# Altium schematic symbol library PBL - Transistors.SCHLIB: 19 symbols
Pins are listed as number, name and electrical type; pins without a type are passive.

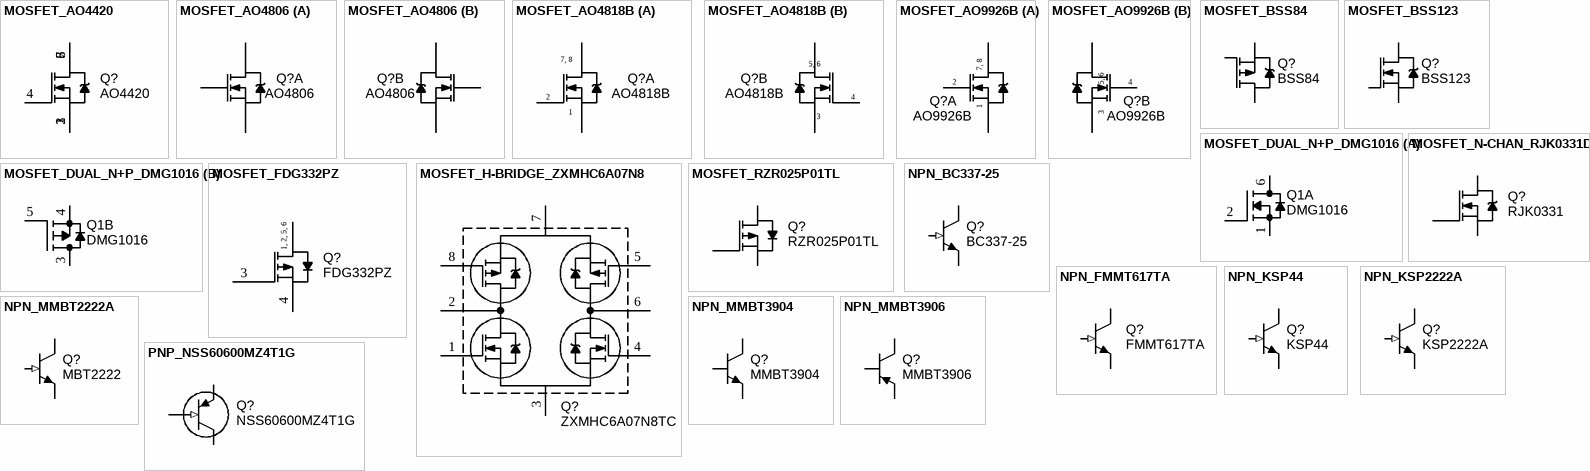
[diagram p0: symbols MOSFET_AO4420 to PNP_NSS60600MZ4T1G]

## MOSFET_AO4420
designator Q?  Manufacturer Part Number 1: AO4420  (hidden comment: *)
MOSFET N-CH 30V 13.7A SOIC-8 SMD; Manufacturer 1: Alpha & Omega Semiconductor Inc; Material: Silicon; Ratings: 30V; 13.7A; Package / Case: SOIC-8; Supplier 1: Digi-Key; Supplier Part Number 1: 785-1287-1-ND
footprint SOIC127P600X175-8AN (SOIC, 8-Leads, Body 4.9x3.9mm, Pitch 1.27mm, IPC Medium Density)
pins: 1 1,2,3, 2 S, 3 S, 4 G, 5 5,6,7,8, 6 D, 7 D, 8 D

## MOSFET_AO4806
designator Q?  Manufacturer Part Number 1: AO4806  (hidden comment: *)
MOSFET Dual-Channel 20V 9.4A SOIC-8 SMD; Manufacturer 1: Alpha & Omega Semiconductor Inc; Ratings: 2W; 20V; 9.4A; 14 mOhm; Material: Silicon; Package / Case: SOIC-8; Supplier 1: Digi-Key; Supplier Part Number 1: 785-1056-1-ND
footprint SOIC127P600X175-8AN (SOIC, 8-Leads, Body 4.9x3.9mm, Pitch 1.27mm, IPC Medium Density)
part A pins: 1 S, 2 G, 7 D, 8 D
part B pins: 3 S, 4 G, 5 D, 6 D

## MOSFET_AO4818B
designator Q?  Manufacturer Part Number 1: AO4818B  (hidden comment: *)
MOSFET Dual-Channel 30V 8.5A SOIC-8 SMD; Manufacturer 1: Alpha & Omega Semiconductor Inc; Ratings: 2W; 30V; 8.5A; 16 mOhm; Material: Silicon; Package / Case: SOIC-8; Supplier 1: Digi-Key; Supplier Part Number 1: 785-1059-1-ND
footprint SOIC127P600X175-8AN (SOIC, 8-Leads, Body 4.9x3.9mm, Pitch 1.27mm, IPC Medium Density)
part A pins: 1 S, 2 G, 7 D, 8 D
part B pins: 3 S, 4 G, 5 D, 6 D
part A text: 7, 8
part B text: 5, 6

## MOSFET_AO9926B
designator Q?, comment AO9926B
MOSFET SMD Dual-Channel 20V 7.6A SOIC-8; Manufacturer 1: Alpha & Omega Semiconductor Inc; Material: Silicon; Ratings: 2W; 20V; 7.6A; 34 mOhm @ 2.5V; Supplier 1: Digi-Key; Supplier Part Number 1: 785-1100-2-ND; Manufacturer Part Number 1: AO9926B; Package / Case: SOIC-8
footprint SOIC127P600X175-8AN (SOIC, 8-Leads, Body 4.9x3.9mm, Pitch 1.27mm, IPC Medium Density)
part A pins: 1 S, 2 G, 7 D, 8 D
part B pins: 3 S, 4 G, 5 D, 6 D
part A text: 7, 8
part B text: 5, 6

## MOSFET_BSS84
designator Q?, comment BSS84
MOSFET SMD P-CH 50V 130mA SOT23-3; Manufacturer 1: Fairchild Semiconductor; Ratings: 50V; 130mA; Material: Metal Oxide; FET Type: MOSFET P-Channel, Metal Oxide; FET Feature: Logic Level Gate; Rds On (Max) @ Id, Vgs: 10 Ohm @ 100mA, 5V; Vgs(th) (Max) @ Id: 2V @ 1mA; Gate Charge (Qg) @ Vgs: 1.3nC @ 5V; Input Capacitance (Ciss) @ Vds: 73pF @ 25V; Power - Max: 360mW; Package / Case: SOT23-3; Supplier 1: Digi-Key; Supplier Part Number 1: BSS84CT-ND; Manufacturer Part Number 1: BSS84; Drain to Source Voltage (Vdss): 50V; Current - Continuous Drain (Id) @ 25° C: 130mA; Supplier Device Package: SOT-23; ComponentLink1URL: http://www.fairchildsemi.com/ds/BS/BSS84.pdf; ComponentLink1Description: http://www.fairchildsemi.com/ds/BS/BSS84.pdf
footprint SOT23-3 (SOT23, 3 pin)
pins: 1 G, 2 S, 3 D

## MOSFET_BSS123
designator Q?, comment BSS123
MOSFET SMD N-CH 100V 170mA SOT23-3; Manufacturer 1: Diodes Inc; Manufacturer Part Number 1: BSS123-7-F; Ratings: 100V; 170mA; Material: Metal Oxide; Package / Case: SOT23-3; Supplier 1: Digi-Key; Supplier Part Number 1: BSS123-FDICT-ND
footprint SOT23-3 (SOT23, 3 pin)
pins: 1 G, 2 S, 3 D

## MOSFET_DUAL_N+P_DMG1016
designator Q1, comment DMG1016
MOSFET Dual Enh N+P 20V 330mW SOT363 SMD; Manufacturer 1: Diodes Inc; Manufacturer Part Number 1: DMG1016UDW-7; Material: Si; Ratings: 20V, 330 mW, low Vgs(thresh); Rds On (Max) @ Id, Vgs: 450 mOhm @ 600mA, 4.5V; Vgs(th) (Max) @ Id: 1V @ 250µA; Package / Case: SOT-363; Supplier 1: Digi-Key; Supplier Part Number 1: DMG1016UDW-7DICT-ND; Supplier Device Package: SOT-363; ComponentLink1URL: http://www.diodes.com/datasheets/ds31860.pdf; ComponentLink1Description: http://www.diodes.com/datasheets/ds31860.pdf; Value: DMG1016
footprint SOT363 (Small outline 2.1mm L x 1.25mm W x 1mm H)
part A pins: 1, 2, 6
part B pins: 3, 4, 5

## MOSFET_FDG332PZ
designator Q?, comment Manufacturer Part Number 1: FDG332PZ  (hidden comment: P-Channel)
MOSFET SMD P-CH 20V 2.6A SC70-6; Manufacturer 1: Fairchild Semiconductor; Rds On (Max) @ Id, Vgs: 95 mOhm @ 2.6A, 4.5V; Ratings: 20V; 2.6A; 480mW; Value: P-Channel; Package / Case: SC-70-6 / SOT-323-6; Supplier 1: Digi-Key; Supplier Part Number 1: FDG332PZCT-ND
footprint SC70-6
pins: 1 D, 2 D, 3 G, 4 S, 5 D, 6 D
text: 1, 2, 5, 6

## MOSFET_H-BRIDGE_ZXMHC6A07N8
designator Q?, comment Manufacturer Part Number 1: ZXMHC6A07N8TC  (hidden comment: H-BRIDGE)
MOSFET H-Bridge 2N 2P SOIC-8 SMD; Manufacturer 1: Diodes Inc; Material: Silicon; Ratings: 60V; 1.3A; Description 1: MOSFET COMPL H-BRIDGE 60V 8-SOIC; FET Type: 2 N and 2 P-Channel (H-Bridge); FET Feature: Logic Level Gate; Rds On (Max) @ Id, Vgs: 250 mOhm @ 1.8A, 10V; Drain to Source Voltage (Vdss): 60V; Vgs(th) (Max) @ Id: 3V @ 250µA; Gate Charge (Qg) @ Vgs: 3.2nC @ 10V; Current - Continuous Drain (Id) @ 25° C: 1.39A, 1.28A; Input Capacitance (Ciss) @ Vds: 166pF @ 40V; Power - Max: 870mW; Package / Case: SOIC-8; Supplier 1: Digi-Key; Supplier Part Number 1: ZXMHC6A07N8DICT-ND; Category: Discrete Semiconductor Products; Mounting Type: Surface Mount; ComponentLink1URL: http://www.diodes.com/datasheets/ZXMHC6A07N8.pdf; ComponentLink1Description: http://www.diodes.com/datasheets/ZXMHC6A07N8.pdf
footprint SOIC127P600X175-8AN (SOIC, 8-Leads, Body 4.9x3.9mm, Pitch 1.27mm, IPC Medium Density)
pins: 1 N1G, 2 N1D/P1D, 3 N1S/N2S, 4 N2G, 5 P2G, 6 N2D/P2D, 7 P1S/P2S, 8 P1G

## MOSFET_N-CHAN_RJK0331DPB
designator Q?, comment RJK0331
MOSFET N-Channel Power Switching 30V 40A LFPAK SMD; Manufacturer 1: Renesas Electronics America; Manufacturer Part Number 1: RJK0331DPB-01#J0; Rds On (Max) @ Id, Vgs: 3.4 mOhm @ 20A, 10V; Vgs(th) (Max) @ Id: 2.5V @ 1mA; Ratings: 30V; 40A; 50W; Drain to Source Voltage (Vdss): 30V; Package / Case: SC-100, SOT-669; Current - Continuous Drain (Id) @ 25° C: 40A; Supplier Device Package: LFPAK; Supplier 1: Digi-Key; Supplier Part Number 1: RJK0331DPB-01#J0CT-ND; ComponentLink1URL: http://media.digikey.com/pdf/Data%20Sheets/Renesas/RJK0331DPB.pdf; ComponentLink1Description: RJK0331DPB.pdf
footprint LFPAK (Renesas LFPAK, a variant of SOIC-8; IPC Medium Density)
pins: 1 S, 2 S, 3 S, 4 G, 5 D

## MOSFET_RZR025P01TL
designator Q?, comment Manufacturer Part Number 1: RZR025P01TL  (hidden comment: P-Channel)
MOSFET SMD P-CH 12V 2.5A 1W SOT23-3; Manufacturer 1: Rohm Semiconductor; Rds On (Max) @ Id, Vgs: 61 mOhm @ 2.5A, 4.5V; Ratings: 12V; 2.5A; 1W; Value: P-Channel; Package / Case: SOT23-3; TSMT3; Supplier 1: Digi-Key; Supplier Part Number 1: RZR025P01TLCT-ND
footprint SOT23-3 (SOT23, 3 pin)
pins: 1 G, 2 S, 3 D

## NPN_BC337-25
designator Q?  Manufacturer Part Number 1: BC337-25  (hidden comment: *)
Transistor, THT, NPN; Manufacturer 1: Philips; Ratings: 45V; 500mA; Package / Case: TO92
pins: B 2 (in), C 3, E 1

## NPN_FMMT617TA
designator Q?  Manufacturer Part Number 1: FMMT617TA
Transistor SMD NPN 15V 3A SOT-23; Manufacturer 1: Diodes/Zetex; Ratings: 15V; 3A; 625mW; Supplier 1: Digi-Key; Supplier Part Number 1: FMMT617CT-ND; Package / Case: SOT-23
footprint SOT23-3 (SOT23, 3 pin)
pins: 1 B (in), 2 E, 3 C

## NPN_KSP44
designator Q?, comment KSP44
Transistor THD NPN 400V 300mA 625mW TO-92; Manufacturer 1: Fairchild Semiconductor; Manufacturer Part Number 1: KSP44TA; Ratings: 400V; 300mA; 625mW; Material: Si; Package / Case: TO-92-3; Mounting Type: Thru-hole; Supplier 1: Digi-Key; Supplier Part Number 1: KSP44TATB-ND; Value: KSP44
footprint TO-92_Flat
footprint TO-92_Flat2
pins: 1 E, 2 B (in), 3 C

## NPN_KSP2222A
designator Q?, comment KSP2222A
Transistor SMD NPN 40V 0.6A 625mW TO-92; Manufacturer 1: Fairchild Semiconductor; Manufacturer Part Number 1: KSP2222ATF; Ratings: 40V; 0.6A; 625mW; Material: Si; Package / Case: TO-92-3; Value: NPN; Mounting Type: Thru-hole; Supplier 1: Digi-Key; Supplier Part Number 1: KSP2222ATF-ND; Supplier 2: Digi-Key; Supplier Part Number 2: PN2222AD26ZTR-ND; Manufacturer 2: Fairchild Semiconductor; Manufacturer Part Number 2: PN2222ATFR; Supplier 3: Digi-Key; Supplier Part Number 3: MPS2222ARLGOSTR-ND; Manufacturer 3: ON Semiconductor; Manufacturer Part Number 3: MPS2222ARLG
footprint TO-92_Flat
pins: 1 E, 2 B (in), 3 C

## NPN_MMBT2222A
designator Q?, comment MBT2222
Transistor SMD NPN 40V 600mA 250mW SOT23-3; Manufacturer 1: Fairchild Semiconductor; Manufacturer Part Number 1: MMBT2222A; Ratings: 40V; 600mA; 250mW; Material: Si; Package / Case: SOT-23; Mounting Type: Surface Mount; Supplier 1: Digi-Key; Supplier Part Number 1: MMBT2222AFSTR-ND; Manufacturer 2: NXP Semiconductors; Manufacturer Part Number 2: MMBT2222A; Supplier 2: Digi-Key; Supplier Part Number 2: 568-4509-2-ND; Value: MBT2222
footprint SOT23-3 (SOT23, 3 pin)
pins: 1 B (in), 2 E, 3 C

## NPN_MMBT3904
designator Q?  Manufacturer Part Number 1: MMBT3904  (hidden comment: *)
Transistor SMD NPN 40V 0.2A 350mW SOT-23; Manufacturer 1: Fairchild Semiconductor; Ratings: 40V; 200mA; 350mW; Material: Si; Package / Case: SOT-23; Supplier 1: Digi-Key; Supplier Part Number 1: MMBT3904FSCT-ND; Transistor Type: NPN; Mounting Type: Surface Mount
footprint SOT23-3 (SOT23, 3 pin)
pins: 1 B, 2 E, 3 C

## NPN_MMBT3906
designator Q?  Manufacturer Part Number 1: MMBT3906  (hidden comment: *)
Transistor SMD PNP 40V 0.2A 350mW SOT-23; Manufacturer 1: Fairchild Semiconductor; Ratings: 40V; 200mA; 350mW; Material: Si; Transistor Type: NPN; Vce Saturation (Max) @ Ib, Ic: 400mV @ 5mA, 50mA; DC Current Gain (hFE) (Min) @ Ic, Vce: 100 @ 10mA, 1V; Frequency - Transition: 250MHz; Package / Case: SOT-23; Mounting Type: Surface Mount; Supplier 1: Digi-Key; Supplier Part Number 1: MMBT3906FSCT-ND; Supplier Device Package: SOT-23; ComponentLink1URL: http://www.fairchildsemi.com/ds/2N/2N3906.pdf; ComponentLink1Description: http://www.fairchildsemi.com/ds/2N/2N3906.pdf
footprint SOT23-3 (SOT23, 3 pin)
pins: 1 B, 2 E, 3 C

## PNP_NSS60600MZ4T1G
designator Q?, comment Manufacturer Part Number 1: NSS60600MZ4T1G  (hidden comment: PNP)
Transistor SMD PNP 60V 6A 800mW SOT-223; Manufacturer 1: ON Semiconductor; Ratings: 60V; 6A; 800mW; Material: Si; Package / Case: SOT-223; Transistor Type: PNP; Mounting Type: Surface Mount; Supplier 1: Digi-Key; Supplier Part Number 1: NSS60600MZ4T1GOSCT-ND
footprint SOT223 (SOT223 /SC-73)
pins: 1 B (in), 2 C, 3 E, 4 C